# Altium footprint library atum.PcbLib: 1 footprints
Each footprint in its own frame and in the unit in brackets; x right, y up, seen from the top. Pads: shape width x height; smd on the part's side, far side on the other; paste and mask are expansions set on the pad; w line width, h text height; cw(c..) or ccw(c..) is an arc to the next point about the centre after c.
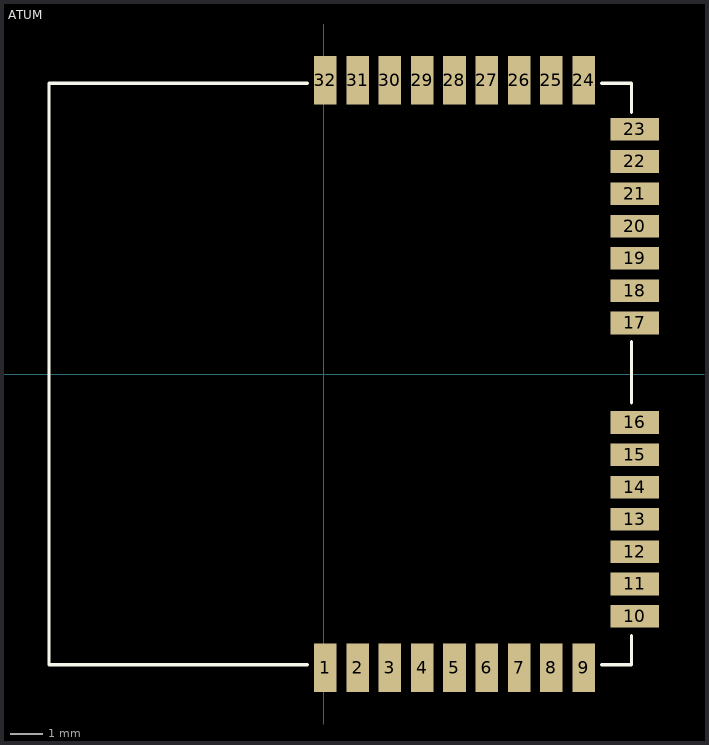
[diagram p0: the footprint, top view; thin cyan lines are the x and y axes]

## ATUM [mm]
pads (32):
  rect 0.7x1.5 smd: 1(0.05,-9.1) 2(1.05,-9.1) 3(2.05,-9.1) 4(3.05,-9.1) 5(4.05,-9.1) 6(5.05,-9.1) 7(6.05,-9.1) 8(7.05,-9.1) 9(8.05,-9.1) 24(8.05,9.1) 25(7.05,9.1) 26(6.05,9.1) 27(5.05,9.1) 28(4.05,9.1) 29(3.05,9.1) 30(2.05,9.1) 31(1.05,9.1) 32(0.05,9.1)
  rect 1.5x0.7 smd: 10(9.629,-7.5) 11(9.629,-6.5) 12(9.629,-5.5) 13(9.629,-4.5) 14(9.629,-3.5) 15(9.629,-2.5) 16(9.629,-1.5) 17(9.629,1.579) 18(9.629,2.579) 19(9.629,3.579) 20(9.629,4.579) 21(9.629,5.579) 22(9.629,6.579) 23(9.629,7.579)
Top Overlay:
  lines w0.1: -0.5,-9 -8.5,-9 -8.5,9 -0.5,9 ; 8.6,-9 9.529,-9 9.529,-8.1 ; 8.6,9 9.529,9 9.529,8.1 ; 9.529,-0.9 9.529,1